# Altium integrated library TI_Logic_Gate.IntLib: 2017 symbols (part 3 of 56)
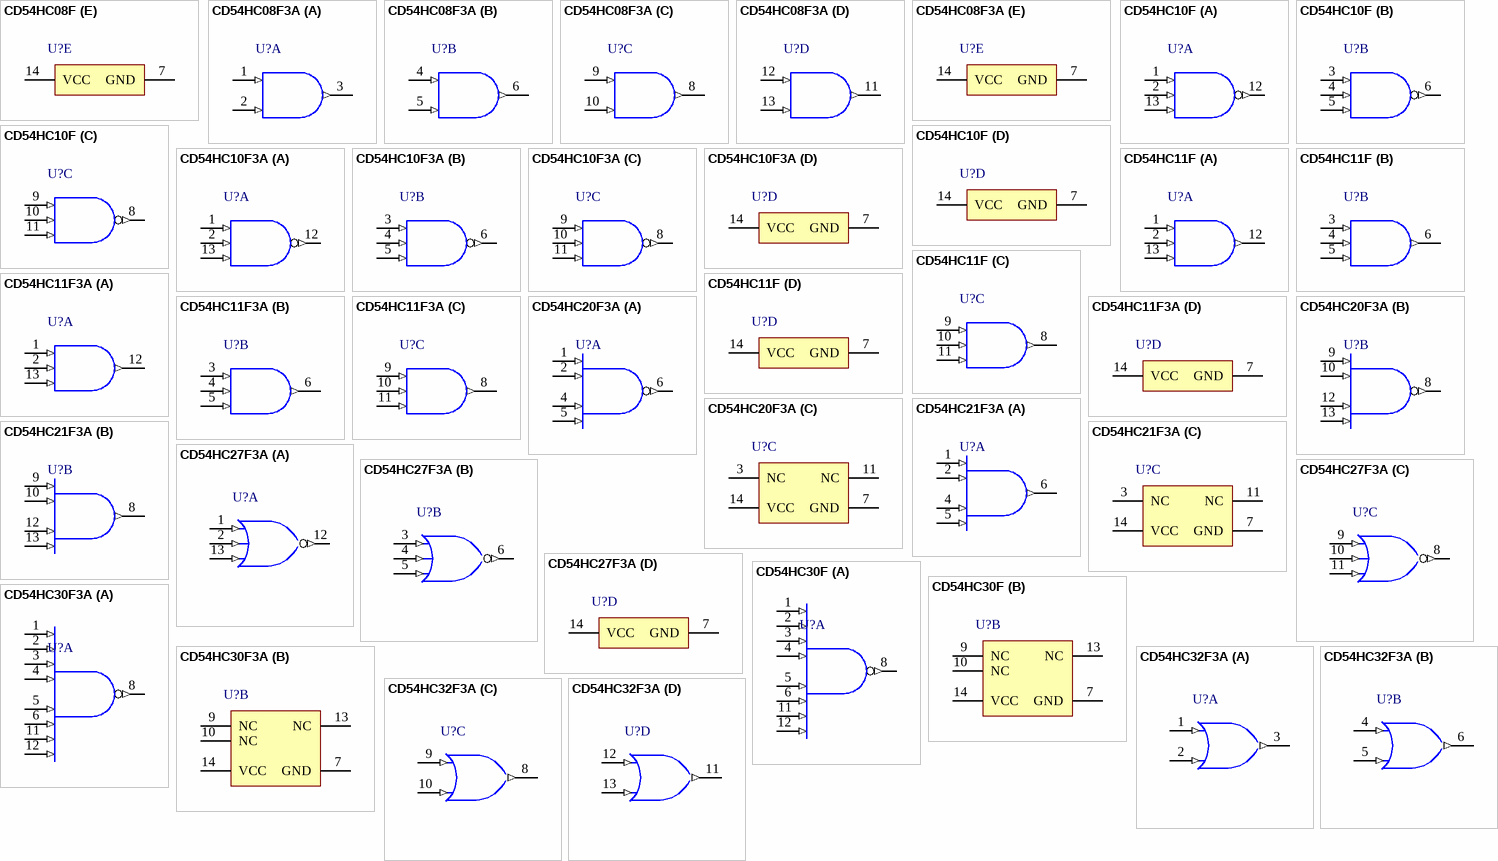
[diagram p228: symbols CD54HC08F to CD54HC32F3A]

## CD54HC11F3A
designator U?
High Speed CMOS Logic Triple 3-Input AND Gates, J0014A, TUBE; Generic Part Number: CD54HC11; Manufacturer: Texas Instruments; PartNumber: CD54HC11F3A; VCC(Min)(V): 2; VCC(Max)(V): 6; Rating: Military; Technology Family: HC; Schmitt Trigger: No; Output Drive (IOL/IOH)(Max)(mA): -5.2/5.2; tpd @ Nom Voltage(Max)(ns): 150; DatasheetVersion: SCHS273E; PackageReference: J0014A; Output Type: CMOS; Input Type: CMOS; Operating Temperature Range(C): -55 to 125; ComponentLink1Description: Manufacturer URL; ComponentLink1URL: http://www.ti.com/; ComponentLink2Description: Datasheet; ComponentLink2URL: http://www.ti.com/lit/ds/symlink/cd54hc11.pdf
footprint J0014A (DIP, 14-Leads, Body 19.95x7.2mm, Pitch 2.54mm)
part A pins: 1 1A (in), 2 1B (in), 12 1Y (out), 13 1C (in)
part B pins: 3 2A (in), 4 2B (in), 5 2C (in), 6 2Y (out)
part C pins: 8 3Y (out), 9 3A (in), 10 3B (in), 11 3C (in)
part D pins: 7 GND (power), 14 VCC (power)

## CD54HC20F3A
designator U?
High Speed CMOS Logic Dual 4-Input NAND Gates, J0014A, TUBE; Generic Part Number: CD54HC20; Manufacturer: Texas Instruments; PartNumber: CD54HC20F3A; VCC(Min)(V): 2; VCC(Max)(V): 6; Rating: Military; Technology Family: HC; Schmitt Trigger: No; DatasheetVersion: SCHS130C; PackageReference: J0014A; Output Type: CMOS; Input Type: CMOS; Operating Temperature Range(C): -55 to 125; ComponentLink1Description: Manufacturer URL; ComponentLink1URL: http://www.ti.com/; ComponentLink2Description: Datasheet; ComponentLink2URL: http://www.ti.com/lit/ds/symlink/cd54hc20.pdf; ComponentLink3Description: Package Specification; ComponentLink3URL: http://www.ti.com/lit/ml/mcer002d/mcer002d.pdf
footprint J0014A (DIP, 14-Leads, Body 19.95x7.2mm, Pitch 2.54mm)
part A pins: 1 1A (in), 2 1B (in), 4 1C (in), 5 1D (in), 6 1Y (out)
part B pins: 8 2Y (out), 9 2A (in), 10 2B (in), 12 2C (in), 13 2D (in)
part C pins: 3 NC, 7 GND (power), 11 NC, 14 VCC (power)

## CD54HC21F3A
designator U?
High Speed CMOS Logic Dual 4-Input AND Gates, J0014A, TUBE; Generic Part Number: CD54HC21; Manufacturer: Texas Instruments; PartNumber: CD54HC21F3A; VCC(Min)(V): 2; VCC(Max)(V): 6; Rating: Military; Technology Family: HC; Schmitt Trigger: No; Output Drive (IOL/IOH)(Max)(mA): -5.2/5.2; tpd @ Nom Voltage(Max)(ns): 165; DatasheetVersion: SCHS131C; PackageReference: J0014A; Output Type: CMOS; Input Type: CMOS; Operating Temperature Range(C): -55 to 125; ComponentLink1Description: Manufacturer URL; ComponentLink1URL: http://www.ti.com/; ComponentLink2Description: Datasheet; ComponentLink2URL: http://www.ti.com/lit/ds/symlink/cd54hc21.pdf
footprint J0014A (DIP, 14-Leads, Body 19.95x7.2mm, Pitch 2.54mm)
part A pins: 1 1A (in), 2 1B (in), 4 1C (in), 5 1D (in), 6 1Y (out)
part B pins: 8 2Y (out), 9 2A (in), 10 2B (in), 12 2C (in), 13 2D (in)
part C pins: 3 NC, 7 GND (power), 11 NC, 14 VCC (power)

## CD54HC27F3A
designator U?
High Speed CMOS Logic Triple 3-Input NOR Gates, J0014A, TUBE; Generic Part Number: CD54HC27; Manufacturer: Texas Instruments; PartNumber: CD54HC27F3A; VCC(Min)(V): 2; VCC(Max)(V): 6; Bits(#): 3; Rating: Military; tpd @ Nom Voltage(Max)(ns): 145; DatasheetVersion: SCHS132C; PackageReference: J0014A; Output Type: CMOS; Input Type: CMOS; Operating Temperature Range(C): -55 to 125; ComponentLink1Description: Manufacturer URL; ComponentLink1URL: http://www.ti.com/; ComponentLink2Description: Datasheet; ComponentLink2URL: http://www.ti.com/lit/ds/symlink/cd54hc27.pdf; ComponentLink3Description: Package Specification; ComponentLink3URL: http://www.ti.com/lit/ml/mcer002d/mcer002d.pdf
footprint J0014A (DIP, 14-Leads, Body 19.95x7.2mm, Pitch 2.54mm)
part A pins: 1 1A (in), 2 1B (in), 12 1Y (out), 13 1C (in)
part B pins: 3 2A (in), 4 2B (in), 5 2C (in), 6 2Y (out)
part C pins: 8 3Y (out), 9 3A (in), 10 3B (in), 11 3C (in)
part D pins: 7 GND (power), 14 VCC (power)

## CD54HC30F
designator U?
High Speed CMOS Logic 8-Input NAND Gate, J0014A, TUBE; Generic Part Number: CD54HC30; Manufacturer: Texas Instruments; PartNumber: CD54HC30F; VCC(Min)(V): 2; VCC(Max)(V): 6; Rating: Military; Technology Family: HC; Schmitt Trigger: No; DatasheetVersion: SCHS121D; PackageReference: J0014A; Output Type: CMOS; Input Type: CMOS; Operating Temperature Range(C): -55 to 125; ComponentLink1Description: Manufacturer URL; ComponentLink1URL: http://www.ti.com/; ComponentLink2Description: Datasheet; ComponentLink2URL: http://www.ti.com/lit/ds/symlink/cd54hc30.pdf; ComponentLink3Description: Package Specification; ComponentLink3URL: http://www.ti.com/lit/ml/mcer002d/mcer002d.pdf
footprint J0014A (DIP, 14-Leads, Body 19.95x7.2mm, Pitch 2.54mm)
part A pins: 1 A (in), 2 B (in), 3 C (in), 4 D (in), 5 E (in), 6 F (in), 8 ~{Y} (out), 11 G (in), 12 H (in)
part B pins: 7 GND (power), 9 NC, 10 NC, 13 NC, 14 VCC (power)

## CD54HC30F3A
designator U?
High Speed CMOS Logic 8-Input NAND Gate, J0014A, TUBE; Generic Part Number: CD54HC30; Manufacturer: Texas Instruments; PartNumber: CD54HC30F3A; VCC(Min)(V): 2; VCC(Max)(V): 6; Rating: Military; Technology Family: HC; Schmitt Trigger: No; DatasheetVersion: SCHS121D; PackageReference: J0014A; Output Type: CMOS; Input Type: CMOS; Operating Temperature Range(C): -55 to 125; ComponentLink1Description: Manufacturer URL; ComponentLink1URL: http://www.ti.com/; ComponentLink2Description: Datasheet; ComponentLink2URL: http://www.ti.com/lit/ds/symlink/cd54hc30.pdf; ComponentLink3Description: Package Specification; ComponentLink3URL: http://www.ti.com/lit/ml/mcer002d/mcer002d.pdf
footprint J0014A (DIP, 14-Leads, Body 19.95x7.2mm, Pitch 2.54mm)
part A pins: 1 A (in), 2 B (in), 3 C (in), 4 D (in), 5 E (in), 6 F (in), 8 ~{Y} (out), 11 G (in), 12 H (in)
part B pins: 7 GND (power), 9 NC, 10 NC, 13 NC, 14 VCC (power)

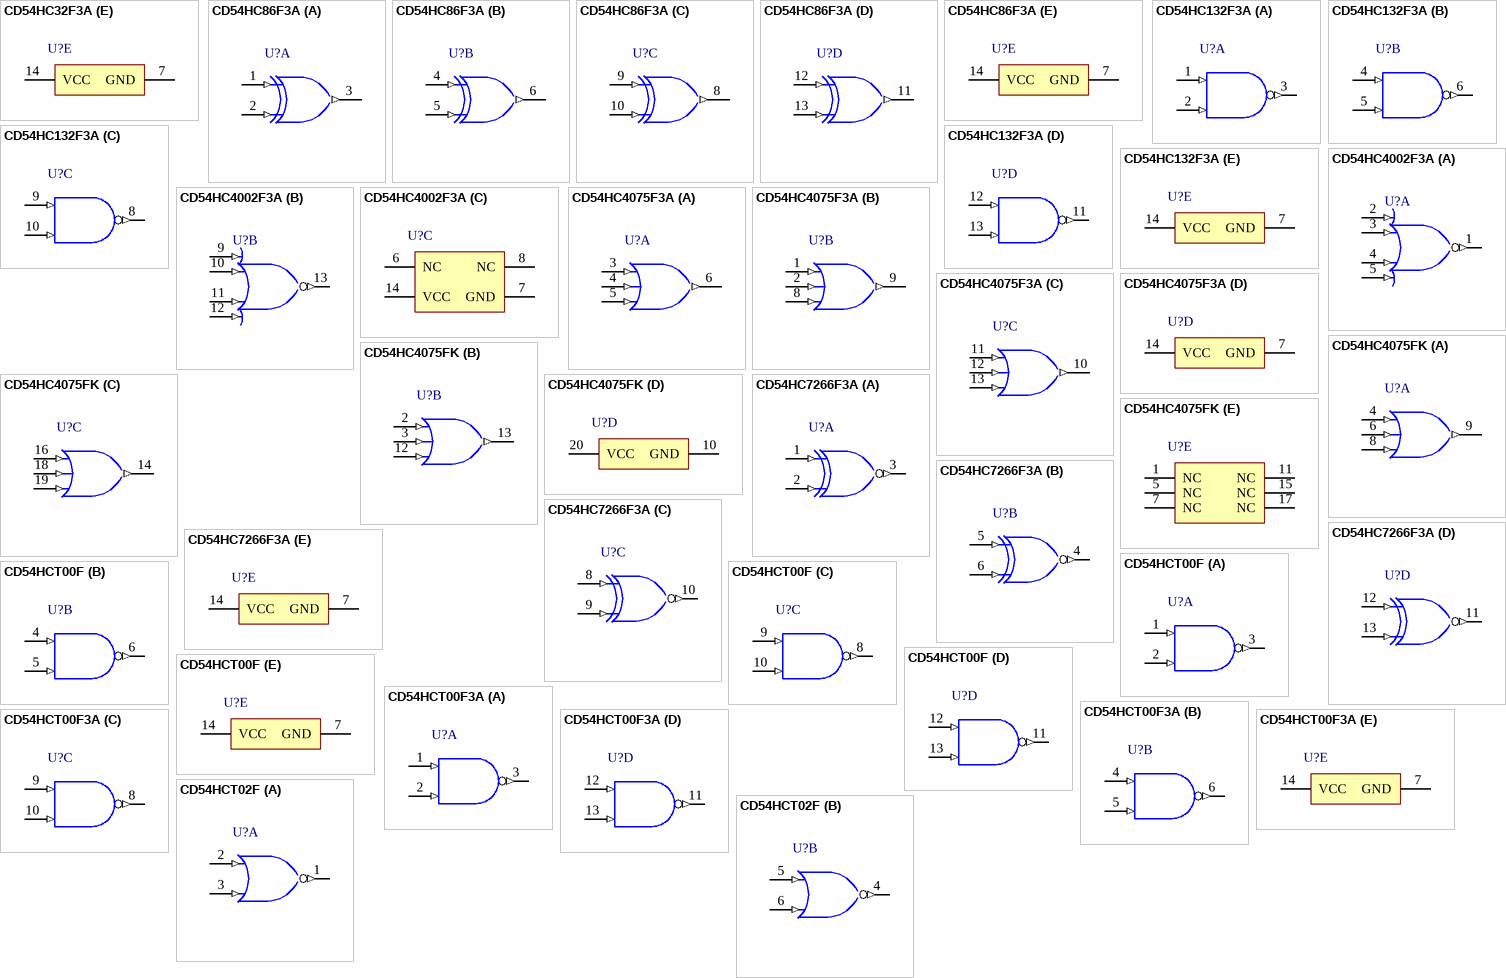
[diagram p10: symbols CD54HC32F3A to CD54HCT02F]

## CD54HC32F3A
designator U?
High Speed CMOS Logic Quad Two-Input OR Gates, J0014A, TUBE; Generic Part Number: CD54HC32; Manufacturer: Texas Instruments; PartNumber: CD54HC32F3A; VCC(Min)(V): 2; VCC(Max)(V): 6; Bits(#): 4; Rating: Military; tpd @ Nom Voltage(Max)(ns): 135; DatasheetVersion: SCHS274C; PackageReference: J0014A; Output Type: CMOS; Input Type: CMOS; Operating Temperature Range(C): -55 to 125; ComponentLink1Description: Manufacturer URL; ComponentLink1URL: http://www.ti.com/; ComponentLink2Description: Datasheet; ComponentLink2URL: http://www.ti.com/lit/ds/symlink/cd54hc32.pdf; ComponentLink3Description: Package Specification; ComponentLink3URL: http://www.ti.com/lit/ml/mcer002d/mcer002d.pdf
footprint J0014A (DIP, 14-Leads, Body 19.95x7.2mm, Pitch 2.54mm)
part A pins: 1 1A (in), 2 1B (in), 3 1Y (out)
part B pins: 4 2A (in), 5 2B (in), 6 2Y (out)
part C pins: 8 3Y (out), 9 3A (in), 10 3B (in)
part D pins: 11 4Y (out), 12 4A (in), 13 4B (in)
part E pins: 7 GND (power), 14 VCC (power)

## CD54HC86F3A
designator U?
High Speed CMOS Logic Quad 2-Input EXCLUSIVE OR Gates, J0014A, TUBE; Generic Part Number: CD54HC86; Manufacturer: Texas Instruments; PartNumber: CD54HC86F3A; VCC(Min)(V): 2; VCC(Max)(V): 6; Rating: Military; Technology Family: HC; Schmitt Trigger: No; DatasheetVersion: SCHS137D; PackageReference: J0014A; Output Type: CMOS; Input Type: CMOS; Operating Temperature Range(C): -55 to 125; ComponentLink1Description: Manufacturer URL; ComponentLink1URL: http://www.ti.com/; ComponentLink2Description: Datasheet; ComponentLink2URL: http://www.ti.com/lit/ds/symlink/cd54hc86.pdf
footprint J0014A (DIP, 14-Leads, Body 19.95x7.2mm, Pitch 2.54mm)
part A pins: 1 1A (in), 2 1B (in), 3 1Y (out)
part B pins: 4 2A (in), 5 2B (in), 6 2Y (out)
part C pins: 8 3Y (out), 9 3A (in), 10 3B (in)
part D pins: 11 4Y (out), 12 4A (in), 13 4B (in)
part E pins: 7 GND (power), 14 VCC (power)

## CD54HC132F3A
designator U?
High Speed CMOS Logic Quad 2-Input NAND Schmitt Trigger, J0014A, TUBE; Generic Part Number: CD54HC132; Manufacturer: Texas Instruments; PartNumber: CD54HC132F3A; VCC(Min)(V): 2; VCC(Max)(V): 6; Rating: Military; Technology Family: HC; Schmitt Trigger: Yes; DatasheetVersion: SCHS145E; PackageReference: J0014A; Output Type: CMOS; Input Type: CMOS; Operating Temperature Range(C): -55 to 125; ComponentLink1Description: Manufacturer URL; ComponentLink1URL: http://www.ti.com/; ComponentLink2Description: Datasheet; ComponentLink2URL: http://www.ti.com/lit/ds/symlink/cd54hc132.pdf; ComponentLink3Description: Package Specification; ComponentLink3URL: http://www.ti.com/lit/ml/mcer002d/mcer002d.pdf
footprint J0014A (DIP, 14-Leads, Body 19.95x7.2mm, Pitch 2.54mm)
part A pins: 1 1A (in) "Gate 1 input", 2 1B (in) "Gate 1 input", 3 1Y (out) "Gate 1 output"
part B pins: 4 2A (in) "Gate 2 input", 5 2B (in) "Gate 2 input", 6 2Y (out) "Gate 2 output"
part C pins: 8 3Y (out) "Gate 3 output", 9 3A (in) "Gate 3 input", 10 3B (in) "Gate 3 input"
part D pins: 11 4Y (out) "Gate 4 output", 12 4A (in) "Gate 4 input", 13 4B (in) "Gate 4 input"
part E pins: 7 GND (power) "Ground Pin", 14 VCC (power) "Power Pin"

## CD54HC4002F3A
designator U?
High Speed CMOS Logic Dual 4-Input NOR Gates, J0014A, TUBE; Generic Part Number: CD54HC4002; Manufacturer: Texas Instruments; PartNumber: CD54HC4002F3A; VCC(Min)(V): 2; VCC(Max)(V): 6; Rating: Military; tpd @ Nom Voltage(Max)(ns): 150; DatasheetVersion: SCHS197E; PackageReference: J0014A; Output Type: CMOS; Input Type: CMOS; Bits(#): 2; Operating Temperature Range(C): -55 to 125; ComponentLink1Description: Manufacturer URL; ComponentLink1URL: http://www.ti.com/; ComponentLink2Description: Datasheet; ComponentLink2URL: http://www.ti.com/lit/ds/symlink/cd54hc4002.pdf; ComponentLink3Description: Package Specification; ComponentLink3URL: http://www.ti.com/lit/ml/mcer002d/mcer002d.pdf
footprint J0014A (DIP, 14-Leads, Body 19.95x7.2mm, Pitch 2.54mm)
part A pins: 1 1Y (out), 2 1A (in), 3 1B (in), 4 1C (in), 5 1D (in)
part B pins: 9 2A (in), 10 2B (in), 11 2C (in), 12 2D (in), 13 2Y (out)
part C pins: 6 NC, 7 GND (power), 8 NC, 14 VCC (power)

## CD54HC4075F3A
designator U?
High Speed CMOS Logic Triple 3-Input OR Gates, J0014A, TUBE; Generic Part Number: CD54HC4075; Manufacturer: Texas Instruments; PartNumber: CD54HC4075F3A; VCC(Min)(V): 2; VCC(Max)(V): 6; Bits(#): 3; Rating: Military; tpd @ Nom Voltage(Max)(ns): 150; DatasheetVersion: SCHS210G; PackageReference: J0014A; Output Type: CMOS; Input Type: CMOS; Operating Temperature Range(C): -55 to 125; ComponentLink1Description: Manufacturer URL; ComponentLink1URL: http://www.ti.com/; ComponentLink2Description: Datasheet; ComponentLink2URL: http://www.ti.com/lit/ds/symlink/cd54hc4075.pdf; ComponentLink3Description: Package Specification; ComponentLink3URL: http://www.ti.com/lit/ml/mcer002d/mcer002d.pdf
footprint J0014A (DIP, 14-Leads, Body 19.95x7.2mm, Pitch 2.54mm)
part A pins: 3 1A (in), 4 1B (in), 5 1C (in), 6 1Y (out)
part B pins: 1 2A (in), 2 2B (in), 8 2C (in), 9 2Y (out)
part C pins: 10 3Y (out), 11 3A (in), 12 3B (in), 13 3C (in)
part D pins: 7 GND (power), 14 VCC (power)

## CD54HC4075FK
designator U?
High Speed CMOS Logic Triple 3-Input OR Gates, FK0020A, TUBE; Generic Part Number: CD54HC4075; Manufacturer: Texas Instruments; PartNumber: CD54HC4075FK; VCC(Min)(V): 2; VCC(Max)(V): 6; Bits(#): 3; Rating: Military; tpd @ Nom Voltage(Max)(ns): 150; DatasheetVersion: SCHS210G; PackageReference: FK0020A; Output Type: CMOS; Input Type: CMOS; Operating Temperature Range(C): -55 to 125; Code_JEDEC: MS-004; ComponentLink1Description: Manufacturer URL; ComponentLink1URL: http://www.ti.com/; ComponentLink2Description: Datasheet; ComponentLink2URL: http://www.ti.com/lit/ds/symlink/cd54hc4075.pdf; ComponentLink3Description: Package Specification; ComponentLink3URL: http://www.ti.com/lit/ml/mlcc006d/mlcc006d.pdf
footprint FK0020A_N (LCC, 20-Leads, Body 8.9x8.9mm, Pitch 1.27mm, IPC Medium Density)
footprint FK0020A_M (LCC, 20-Leads, Body 8.9x8.9mm, Pitch 1.27mm, IPC Low Density)
footprint FK0020A_L (LCC, 20-Leads, Body 8.9x8.9mm, Pitch 1.27mm, IPC High Density)
part A pins: 4 1A (in), 6 1B (in), 8 1C (in), 9 1Y (out)
part B pins: 2 2A (in), 3 2B (in), 12 2C (in), 13 2Y (out)
part C pins: 14 3Y (out), 16 3A (in), 18 3B (in), 19 3C (in)
part D pins: 10 GND (power), 20 VCC (power)
part E pins: 1 NC, 5 NC, 7 NC, 11 NC, 15 NC, 17 NC

## CD54HC7266F3A
designator U?
High Speed CMOS Logic, J0014A, TUBE; Generic Part Number: CD54HC7266; Manufacturer: Texas Instruments; PartNumber: CD54HC7266F3A; VCC(Min)(V): 2; VCC(Max)(V): 6; Output Drive(mA): -5.2/5.2; ICC @ Nom Voltage(Max)(mA): 0.02; Bits(#): 4; F @ Nom Voltage(Max)(Mhz): 9; Rating: Military; Technology Family: HC; Voltage(Nom)(V): 10; Schmitt Trigger: No; tpd @ Nom Voltage(Max)(ns): 25; DatasheetVersion: SCHS219D; PackageReference: J0014A; Output Type: CMOS; Input Type: CMOS; Operating Temperature Range(C): -55 to 125; ComponentLink1Description: Manufacturer URL; ComponentLink1URL: http://www.ti.com/; ComponentLink2Description: Datasheet; ComponentLink2URL: http://www.ti.com/lit/ds/symlink/cd54hc7266.pdf
footprint J0014A (DIP, 14-Leads, Body 19.95x7.2mm, Pitch 2.54mm)
part A pins: 1 1A (in), 2 1B (in), 3 1Y (out)
part B pins: 4 2Y (out), 5 2A (in), 6 2B (in)
part C pins: 8 3A (in), 9 3B (in), 10 3Y (out)
part D pins: 11 4Y (out), 12 4A (in), 13 4B (in)
part E pins: 7 GND (power), 14 VCC (power)

## CD54HCT00F
designator U?
High Speed CMOS Logic Quad 2-Input NAND Gates, J0014A, TUBE; Generic Part Number: CD54HCT00; Manufacturer: Texas Instruments; PartNumber: CD54HCT00F; VCC(Min)(V): 4.5; VCC(Max)(V): 5.5; Input Type: TTL; Rating: Military; Technology Family: HCT; Schmitt Trigger: No; DatasheetVersion: SCHS116C; PackageReference: J0014A; Output Type: CMOS; Operating Temperature Range(C): -55 to 125; ComponentLink1Description: Manufacturer URL; ComponentLink1URL: http://www.ti.com/; ComponentLink2Description: Datasheet; ComponentLink2URL: http://www.ti.com/lit/ds/symlink/cd54hct00.pdf; ComponentLink3Description: Package Specification; ComponentLink3URL: http://www.ti.com/lit/ml/mcer002d/mcer002d.pdf
footprint J0014A (DIP, 14-Leads, Body 19.95x7.2mm, Pitch 2.54mm)
part A pins: 1 1A (in) "Gate 1 input", 2 1B (in) "Gate 1 input", 3 1Y (out) "Gate 1 output"
part B pins: 4 2A (in) "Gate 2 input", 5 2B (in) "Gate 2 input", 6 2Y (out) "Gate 2 output"
part C pins: 8 3Y (out) "Gate 3 output", 9 3A (in) "Gate 3 input", 10 3B (in) "Gate 3 input"
part D pins: 11 4Y (out) "Gate 4 output", 12 4A (in) "Gate 4 input", 13 4B (in) "Gate 4 input"
part E pins: 7 GND (power) "Ground Pin", 14 VCC (power) "Power Pin"

## CD54HCT00F3A
designator U?
High Speed CMOS Logic Quad 2-Input NAND Gates, J0014A, TUBE; Generic Part Number: CD54HCT00; Manufacturer: Texas Instruments; PartNumber: CD54HCT00F3A; VCC(Min)(V): 4.5; VCC(Max)(V): 5.5; Input Type: TTL; Rating: Military; Technology Family: HCT; Schmitt Trigger: No; DatasheetVersion: SCHS116C; PackageReference: J0014A; Output Type: CMOS; Operating Temperature Range(C): -55 to 125; ComponentLink1Description: Manufacturer URL; ComponentLink1URL: http://www.ti.com/; ComponentLink2Description: Datasheet; ComponentLink2URL: http://www.ti.com/lit/ds/symlink/cd54hct00.pdf; ComponentLink3Description: Package Specification; ComponentLink3URL: http://www.ti.com/lit/ml/mcer002d/mcer002d.pdf
footprint J0014A (DIP, 14-Leads, Body 19.95x7.2mm, Pitch 2.54mm)
part A pins: 1 1A (in) "Gate 1 input", 2 1B (in) "Gate 1 input", 3 1Y (out) "Gate 1 output"
part B pins: 4 2A (in) "Gate 2 input", 5 2B (in) "Gate 2 input", 6 2Y (out) "Gate 2 output"
part C pins: 8 3Y (out) "Gate 3 output", 9 3A (in) "Gate 3 input", 10 3B (in) "Gate 3 input"
part D pins: 11 4Y (out) "Gate 4 output", 12 4A (in) "Gate 4 input", 13 4B (in) "Gate 4 input"
part E pins: 7 GND (power) "Ground Pin", 14 VCC (power) "Power Pin"

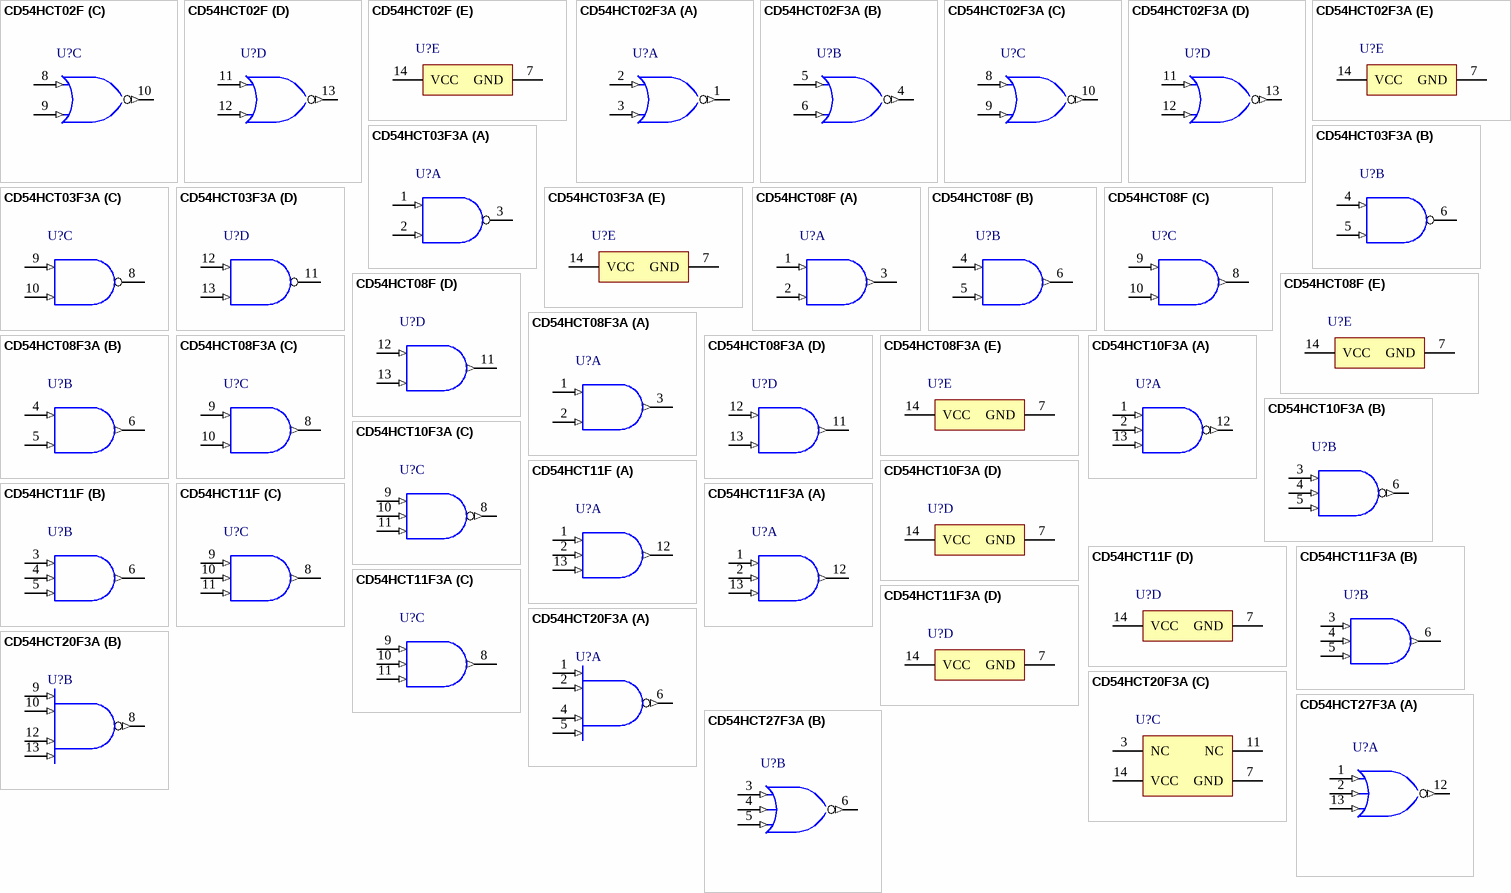
[diagram p11: symbols CD54HCT02F to CD54HCT27F3A]

## CD54HCT02F
designator U?
High Speed CMOS Logic Quad Two-Input NOR Gates, J0014A, TUBE; Generic Part Number: CD54HCT02; Manufacturer: Texas Instruments; PartNumber: CD54HCT02F; VCC(Min)(V): 4.5; VCC(Max)(V): 5.5; Input Type: TTL; Bits(#): 4; Rating: Military; tpd @ Nom Voltage(Max)(ns): 32; DatasheetVersion: SCHS125C; PackageReference: J0014A; Output Type: CMOS; Operating Temperature Range(C): -55 to 125; ComponentLink1Description: Manufacturer URL; ComponentLink1URL: http://www.ti.com/; ComponentLink2Description: Datasheet; ComponentLink2URL: http://www.ti.com/lit/ds/symlink/cd54hct02.pdf; ComponentLink3Description: Package Specification; ComponentLink3URL: http://www.ti.com/lit/ml/mcer002d/mcer002d.pdf
footprint J0014A (DIP, 14-Leads, Body 19.95x7.2mm, Pitch 2.54mm)
part A pins: 1 1Y (out) "1Y output", 2 1A (in) "1A input", 3 1B (in) "1B input"
part B pins: 4 2Y (out) "2Y output", 5 2A (in) "2A input", 6 2B (in) "2B input"
part C pins: 8 3A (in) "3A input", 9 3B (in) "3B input", 10 3Y (out) "3Y output"
part D pins: 11 4A (in) "4A input", 12 4B (in) "4B input", 13 4Y (out) "4Y output"
part E pins: 7 GND (power), 14 VCC (power)

## CD54HCT02F3A
designator U?
High Speed CMOS Logic Quad Two-Input NOR Gates, J0014A, TUBE; Generic Part Number: CD54HCT02; Manufacturer: Texas Instruments; PartNumber: CD54HCT02F3A; VCC(Min)(V): 4.5; VCC(Max)(V): 5.5; Input Type: TTL; Bits(#): 4; Rating: Military; tpd @ Nom Voltage(Max)(ns): 32; DatasheetVersion: SCHS125C; PackageReference: J0014A; Output Type: CMOS; Operating Temperature Range(C): -55 to 125; ComponentLink1Description: Manufacturer URL; ComponentLink1URL: http://www.ti.com/; ComponentLink2Description: Datasheet; ComponentLink2URL: http://www.ti.com/lit/ds/symlink/cd54hct02.pdf; ComponentLink3Description: Package Specification; ComponentLink3URL: http://www.ti.com/lit/ml/mcer002d/mcer002d.pdf
footprint J0014A (DIP, 14-Leads, Body 19.95x7.2mm, Pitch 2.54mm)
part A pins: 1 1Y (out) "1Y output", 2 1A (in) "1A input", 3 1B (in) "1B input"
part B pins: 4 2Y (out) "2Y output", 5 2A (in) "2A input", 6 2B (in) "2B input"
part C pins: 8 3A (in) "3A input", 9 3B (in) "3B input", 10 3Y (out) "3Y output"
part D pins: 11 4A (in) "4A input", 12 4B (in) "4B input", 13 4Y (out) "4Y output"
part E pins: 7 GND (power), 14 VCC (power)

## CD54HCT03F3A
designator U?
High Speed CMOS Logic Quad 2-Input NAND Gates with Open Drain, J0014A, TUBE; Generic Part Number: CD54HCT03; Manufacturer: Texas Instruments; PartNumber: CD54HCT03F3A; VCC(Min)(V): 4.5; VCC(Max)(V): 5.5; Input Type: TTL; Rating: Military; Technology Family: HCT; Schmitt Trigger: No; DatasheetVersion: SCHS126D; PackageReference: J0014A; Output Type: CMOS; Operating Temperature Range(C): -55 to 125; ComponentLink1Description: Manufacturer URL; ComponentLink1URL: http://www.ti.com/; ComponentLink2Description: Datasheet; ComponentLink2URL: http://www.ti.com/lit/ds/symlink/cd54hct03.pdf; ComponentLink3Description: Package Specification; ComponentLink3URL: http://www.ti.com/lit/ml/mcer002d/mcer002d.pdf
footprint J0014A (DIP, 14-Leads, Body 19.95x7.2mm, Pitch 2.54mm)
part A pins: 1 1A (in), 2 1B (in), 3 1Y (oc)
part B pins: 4 2A (in), 5 2B (in), 6 2Y (oc)
part C pins: 8 3Y (oc), 9 3A (in), 10 3B (in)
part D pins: 11 4Y (oc), 12 4A (in), 13 4B (in)
part E pins: 7 GND (power), 14 VCC (power)

## CD54HCT08F
designator U?
High Speed CMOS Logic Quad 2-Input AND Gates, J0014A, TUBE; Generic Part Number: CD54HCT08; Manufacturer: Texas Instruments; PartNumber: CD54HCT08F; VCC(Min)(V): 4.5; VCC(Max)(V): 5.5; Input Type: TTL; Rating: Military; Technology Family: HCT; Schmitt Trigger: No; Output Drive (IOL/IOH)(Max)(mA): -5.2/5.2; tpd @ Nom Voltage(Max)(ns): 38; DatasheetVersion: SCHS118C; PackageReference: J0014A; Output Type: CMOS; Operating Temperature Range(C): -55 to 125; ComponentLink1Description: Manufacturer URL; ComponentLink1URL: http://www.ti.com/; ComponentLink2Description: Datasheet; ComponentLink2URL: http://www.ti.com/lit/ds/symlink/cd54hct08.pdf
footprint J0014A (DIP, 14-Leads, Body 19.95x7.2mm, Pitch 2.54mm)
part A pins: 1 1A (in), 2 1B (in), 3 1Y (out)
part B pins: 4 2A (in), 5 2B (in), 6 2Y (out)
part C pins: 8 3Y (out), 9 3A (in), 10 3B (in)
part D pins: 11 4Y (out), 12 4A (in), 13 4B (in)
part E pins: 7 GND (power), 14 VCC (power)

## CD54HCT08F3A
designator U?
High Speed CMOS Logic Quad 2-Input AND Gates, J0014A, TUBE; Generic Part Number: CD54HCT08; Manufacturer: Texas Instruments; PartNumber: CD54HCT08F3A; VCC(Min)(V): 4.5; VCC(Max)(V): 5.5; Input Type: TTL; Rating: Military; Technology Family: HCT; Schmitt Trigger: No; Output Drive (IOL/IOH)(Max)(mA): -5.2/5.2; tpd @ Nom Voltage(Max)(ns): 38; DatasheetVersion: SCHS118C; PackageReference: J0014A; Output Type: CMOS; Operating Temperature Range(C): -55 to 125; ComponentLink1Description: Manufacturer URL; ComponentLink1URL: http://www.ti.com/; ComponentLink2Description: Datasheet; ComponentLink2URL: http://www.ti.com/lit/ds/symlink/cd54hct08.pdf
footprint J0014A (DIP, 14-Leads, Body 19.95x7.2mm, Pitch 2.54mm)
part A pins: 1 1A (in), 2 1B (in), 3 1Y (out)
part B pins: 4 2A (in), 5 2B (in), 6 2Y (out)
part C pins: 8 3Y (out), 9 3A (in), 10 3B (in)
part D pins: 11 4Y (out), 12 4A (in), 13 4B (in)
part E pins: 7 GND (power), 14 VCC (power)

## CD54HCT10F3A
designator U?
High Speed CMOS Logic Triple 3-Input NAND Gates, J0014A, TUBE; Generic Part Number: CD54HCT10; Manufacturer: Texas Instruments; PartNumber: CD54HCT10F3A; VCC(Min)(V): 4.5; VCC(Max)(V): 5.5; Input Type: TTL; Rating: Military; Technology Family: HCT; Schmitt Trigger: No; DatasheetVersion: SCHS128C; PackageReference: J0014A; Output Type: CMOS; Operating Temperature Range(C): -55 to 125; ComponentLink1Description: Manufacturer URL; ComponentLink1URL: http://www.ti.com/; ComponentLink2Description: Datasheet; ComponentLink2URL: http://www.ti.com/lit/ds/symlink/cd54hct10.pdf; ComponentLink3Description: Package Specification; ComponentLink3URL: http://www.ti.com/lit/ml/mcer002d/mcer002d.pdf
footprint J0014A (DIP, 14-Leads, Body 19.95x7.2mm, Pitch 2.54mm)
part A pins: 1 1A (in), 2 1B (in), 12 1Y (out), 13 1C (in)
part B pins: 3 2A (in), 4 2B (in), 5 2C (in), 6 2Y (out)
part C pins: 8 3Y (out), 9 3A (in), 10 3B (in), 11 3C (in)
part D pins: 7 GND (power), 14 VCC (power)

## CD54HCT11F
designator U?
High Speed CMOS Logic Triple 3-Input AND Gates, J0014A, TUBE; Generic Part Number: CD54HCT11; Manufacturer: Texas Instruments; PartNumber: CD54HCT11F; VCC(Min)(V): 4.5; VCC(Max)(V): 5.5; Input Type: TTL; Rating: Military; Technology Family: HCT; Schmitt Trigger: No; Output Drive (IOL/IOH)(Max)(mA): -4/4; tpd @ Nom Voltage(Max)(ns): 42; DatasheetVersion: SCHS273E; PackageReference: J0014A; Output Type: CMOS; Operating Temperature Range(C): -55 to 125; ComponentLink1Description: Manufacturer URL; ComponentLink1URL: http://www.ti.com/; ComponentLink2Description: Datasheet; ComponentLink2URL: http://www.ti.com/lit/ds/symlink/cd54hct11.pdf
footprint J0014A (DIP, 14-Leads, Body 19.95x7.2mm, Pitch 2.54mm)
part A pins: 1 1A (in), 2 1B (in), 12 1Y (out), 13 1C (in)
part B pins: 3 2A (in), 4 2B (in), 5 2C (in), 6 2Y (out)
part C pins: 8 3Y (out), 9 3A (in), 10 3B (in), 11 3C (in)
part D pins: 7 GND (power), 14 VCC (power)

## CD54HCT11F3A
designator U?
High Speed CMOS Logic Triple 3-Input AND Gates, J0014A, TUBE; Generic Part Number: CD54HCT11; Manufacturer: Texas Instruments; PartNumber: CD54HCT11F3A; VCC(Min)(V): 4.5; VCC(Max)(V): 5.5; Input Type: TTL; Rating: Military; Technology Family: HCT; Schmitt Trigger: No; Output Drive (IOL/IOH)(Max)(mA): -4/4; tpd @ Nom Voltage(Max)(ns): 42; DatasheetVersion: SCHS273E; PackageReference: J0014A; Output Type: CMOS; Operating Temperature Range(C): -55 to 125; ComponentLink1Description: Manufacturer URL; ComponentLink1URL: http://www.ti.com/; ComponentLink2Description: Datasheet; ComponentLink2URL: http://www.ti.com/lit/ds/symlink/cd54hct11.pdf
footprint J0014A (DIP, 14-Leads, Body 19.95x7.2mm, Pitch 2.54mm)
part A pins: 1 1A (in), 2 1B (in), 12 1Y (out), 13 1C (in)
part B pins: 3 2A (in), 4 2B (in), 5 2C (in), 6 2Y (out)
part C pins: 8 3Y (out), 9 3A (in), 10 3B (in), 11 3C (in)
part D pins: 7 GND (power), 14 VCC (power)

## CD54HCT20F3A
designator U?
High Speed CMOS Logic Dual 4-Input NAND Gates, J0014A, TUBE; Generic Part Number: CD54HCT20; Manufacturer: Texas Instruments; PartNumber: CD54HCT20F3A; VCC(Min)(V): 4.5; VCC(Max)(V): 5.5; Input Type: TTL; Rating: Military; Technology Family: HCT; Schmitt Trigger: No; DatasheetVersion: SCHS130C; PackageReference: J0014A; Output Type: CMOS; Operating Temperature Range(C): -55 to 125; ComponentLink1Description: Manufacturer URL; ComponentLink1URL: http://www.ti.com/; ComponentLink2Description: Datasheet; ComponentLink2URL: http://www.ti.com/lit/ds/symlink/cd54hct20.pdf; ComponentLink3Description: Package Specification; ComponentLink3URL: http://www.ti.com/lit/ml/mcer002d/mcer002d.pdf
footprint J0014A (DIP, 14-Leads, Body 19.95x7.2mm, Pitch 2.54mm)
part A pins: 1 1A (in), 2 1B (in), 4 1C (in), 5 1D (in), 6 1Y (out)
part B pins: 8 2Y (out), 9 2A (in), 10 2B (in), 12 2C (in), 13 2D (in)
part C pins: 3 NC, 7 GND (power), 11 NC, 14 VCC (power)

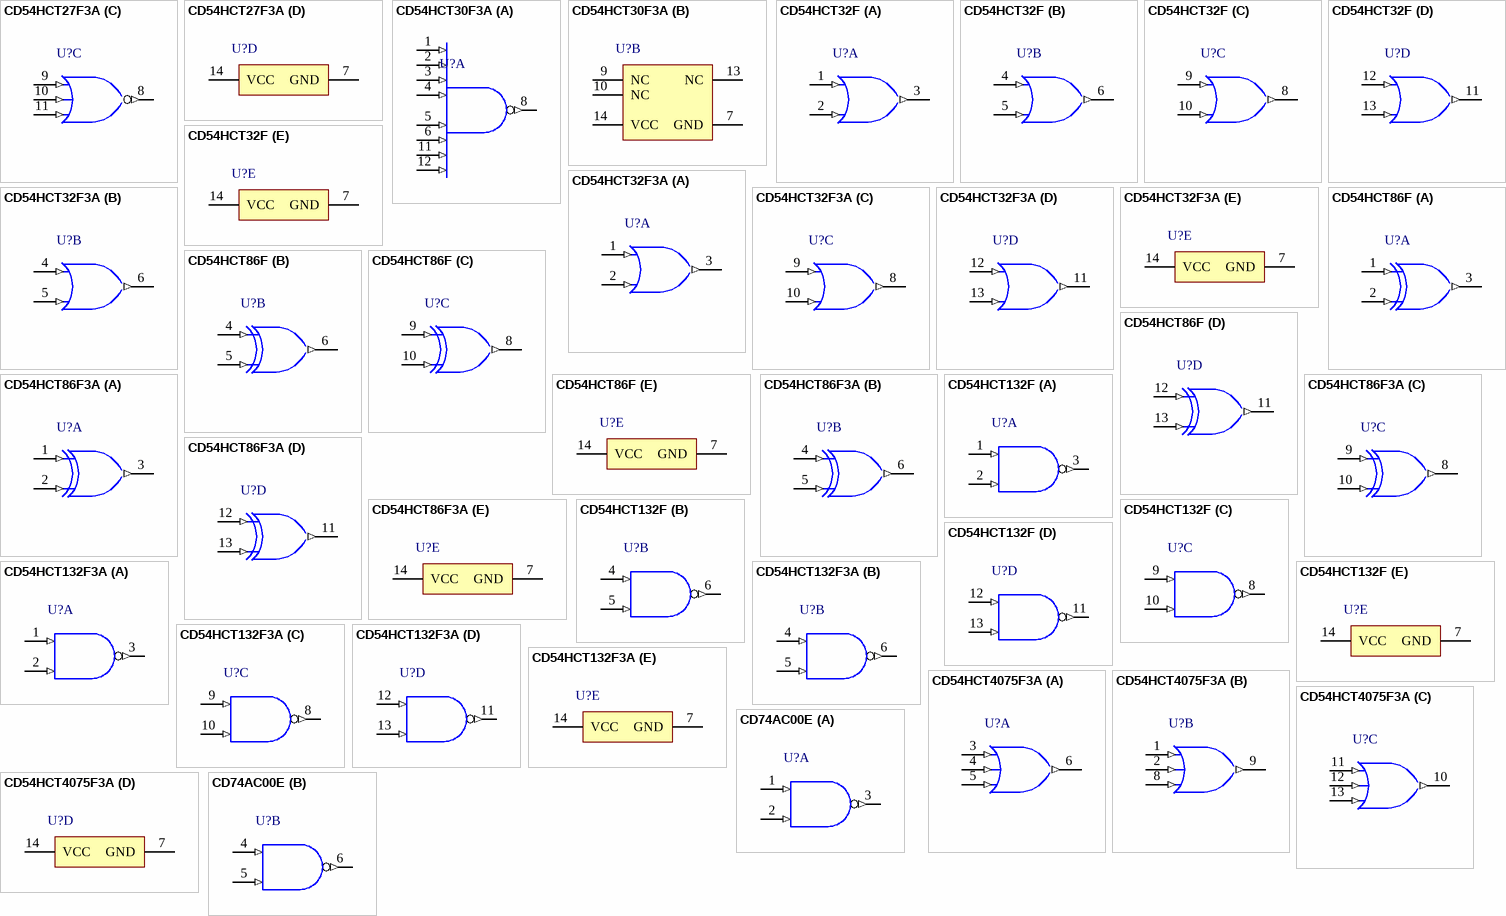
[diagram p12: symbols CD54HCT27F3A to CD74AC00E]

## CD54HCT27F3A
designator U?
High Speed CMOS Logic Triple 3-Input NOR Gates, J0014A, TUBE; Generic Part Number: CD54HCT27; Manufacturer: Texas Instruments; PartNumber: CD54HCT27F3A; VCC(Min)(V): 4.5; VCC(Max)(V): 5.5; Input Type: TTL; Bits(#): 3; Rating: Military; tpd @ Nom Voltage(Max)(ns): 35; DatasheetVersion: SCHS132C; PackageReference: J0014A; Output Type: CMOS; Operating Temperature Range(C): -55 to 125; ComponentLink1Description: Manufacturer URL; ComponentLink1URL: http://www.ti.com/; ComponentLink2Description: Datasheet; ComponentLink2URL: http://www.ti.com/lit/ds/symlink/cd54hct27.pdf; ComponentLink3Description: Package Specification; ComponentLink3URL: http://www.ti.com/lit/ml/mcer002d/mcer002d.pdf
footprint J0014A (DIP, 14-Leads, Body 19.95x7.2mm, Pitch 2.54mm)
part A pins: 1 1A (in), 2 1B (in), 12 1Y (out), 13 1C (in)
part B pins: 3 2A (in), 4 2B (in), 5 2C (in), 6 2Y (out)
part C pins: 8 3Y (out), 9 3A (in), 10 3B (in), 11 3C (in)
part D pins: 7 GND (power), 14 VCC (power)

## CD54HCT30F3A
designator U?
High Speed CMOS Logic 8-Input NAND Gate, J0014A, TUBE; Generic Part Number: CD54HCT30; Manufacturer: Texas Instruments; PartNumber: CD54HCT30F3A; VCC(Min)(V): 4.5; VCC(Max)(V): 5.5; Input Type: TTL; Rating: Military; Technology Family: HCT; Schmitt Trigger: No; DatasheetVersion: SCHS121D; PackageReference: J0014A; Output Type: CMOS; Operating Temperature Range(C): -55 to 125; ComponentLink1Description: Manufacturer URL; ComponentLink1URL: http://www.ti.com/; ComponentLink2Description: Datasheet; ComponentLink2URL: http://www.ti.com/lit/ds/symlink/cd54hct30.pdf; ComponentLink3Description: Package Specification; ComponentLink3URL: http://www.ti.com/lit/ml/mcer002d/mcer002d.pdf
footprint J0014A (DIP, 14-Leads, Body 19.95x7.2mm, Pitch 2.54mm)
part A pins: 1 A (in), 2 B (in), 3 C (in), 4 D (in), 5 E (in), 6 F (in), 8 ~{Y} (out), 11 G (in), 12 H (in)
part B pins: 7 GND (power), 9 NC, 10 NC, 13 NC, 14 VCC (power)

## CD54HCT32F
designator U?
High Speed CMOS Logic Quad Two-Input OR Gates, J0014A, TUBE; Generic Part Number: CD54HCT32; Manufacturer: Texas Instruments; PartNumber: CD54HCT32F; VCC(Min)(V): 4.5; VCC(Max)(V): 5.5; Input Type: TTL; Bits(#): 4; Rating: Military; tpd @ Nom Voltage(Max)(ns): 36; DatasheetVersion: SCHS274C; PackageReference: J0014A; Output Type: CMOS; Operating Temperature Range(C): -55 to 125; ComponentLink1Description: Manufacturer URL; ComponentLink1URL: http://www.ti.com/; ComponentLink2Description: Datasheet; ComponentLink2URL: http://www.ti.com/lit/ds/symlink/cd54hct32.pdf; ComponentLink3Description: Package Specification; ComponentLink3URL: http://www.ti.com/lit/ml/mcer002d/mcer002d.pdf
footprint J0014A (DIP, 14-Leads, Body 19.95x7.2mm, Pitch 2.54mm)
part A pins: 1 1A (in), 2 1B (in), 3 1Y (out)
part B pins: 4 2A (in), 5 2B (in), 6 2Y (out)
part C pins: 8 3Y (out), 9 3A (in), 10 3B (in)
part D pins: 11 4Y (out), 12 4A (in), 13 4B (in)
part E pins: 7 GND (power), 14 VCC (power)

## CD54HCT32F3A
designator U?
High Speed CMOS Logic Quad Two-Input OR Gates, J0014A, TUBE; Generic Part Number: CD54HCT32; Manufacturer: Texas Instruments; PartNumber: CD54HCT32F3A; VCC(Min)(V): 4.5; VCC(Max)(V): 5.5; Input Type: TTL; Bits(#): 4; Rating: Military; tpd @ Nom Voltage(Max)(ns): 36; DatasheetVersion: SCHS274C; PackageReference: J0014A; Output Type: CMOS; Operating Temperature Range(C): -55 to 125; ComponentLink1Description: Manufacturer URL; ComponentLink1URL: http://www.ti.com/; ComponentLink2Description: Datasheet; ComponentLink2URL: http://www.ti.com/lit/ds/symlink/cd54hct32.pdf; ComponentLink3Description: Package Specification; ComponentLink3URL: http://www.ti.com/lit/ml/mcer002d/mcer002d.pdf
footprint J0014A (DIP, 14-Leads, Body 19.95x7.2mm, Pitch 2.54mm)
part A pins: 1 1A (in), 2 1B (in), 3 1Y (out)
part B pins: 4 2A (in), 5 2B (in), 6 2Y (out)
part C pins: 8 3Y (out), 9 3A (in), 10 3B (in)
part D pins: 11 4Y (out), 12 4A (in), 13 4B (in)
part E pins: 7 GND (power), 14 VCC (power)

## CD54HCT86F
designator U?
High Speed CMOS Logic Quad 2-Input EXCLUSIVE OR Gates, J0014A, TUBE; Generic Part Number: CD54HCT86; Manufacturer: Texas Instruments; PartNumber: CD54HCT86F; VCC(Min)(V): 4.5; VCC(Max)(V): 5.5; Input Type: TTL; Rating: Military; Technology Family: HCT; Voltage(Nom)(V): 5; Schmitt Trigger: No; DatasheetVersion: SCHS137D; PackageReference: J0014A; Output Type: CMOS; Operating Temperature Range(C): -55 to 125; ComponentLink1Description: Manufacturer URL; ComponentLink1URL: http://www.ti.com/; ComponentLink2Description: Datasheet; ComponentLink2URL: http://www.ti.com/lit/ds/symlink/cd54hct86.pdf
footprint J0014A (DIP, 14-Leads, Body 19.95x7.2mm, Pitch 2.54mm)
part A pins: 1 1A (in), 2 1B (in), 3 1Y (out)
part B pins: 4 2A (in), 5 2B (in), 6 2Y (out)
part C pins: 8 3Y (out), 9 3A (in), 10 3B (in)
part D pins: 11 4Y (out), 12 4A (in), 13 4B (in)
part E pins: 7 GND (power), 14 VCC (power)

## CD54HCT86F3A
designator U?
High Speed CMOS Logic Quad 2-Input EXCLUSIVE OR Gates, J0014A, TUBE; Generic Part Number: CD54HCT86; Manufacturer: Texas Instruments; PartNumber: CD54HCT86F3A; VCC(Min)(V): 4.5; VCC(Max)(V): 5.5; Input Type: TTL; Rating: Military; Technology Family: HCT; Voltage(Nom)(V): 5; Schmitt Trigger: No; DatasheetVersion: SCHS137D; PackageReference: J0014A; Output Type: CMOS; Operating Temperature Range(C): -55 to 125; ComponentLink1Description: Manufacturer URL; ComponentLink1URL: http://www.ti.com/; ComponentLink2Description: Datasheet; ComponentLink2URL: http://www.ti.com/lit/ds/symlink/cd54hct86.pdf
footprint J0014A (DIP, 14-Leads, Body 19.95x7.2mm, Pitch 2.54mm)
part A pins: 1 1A (in), 2 1B (in), 3 1Y (out)
part B pins: 4 2A (in), 5 2B (in), 6 2Y (out)
part C pins: 8 3Y (out), 9 3A (in), 10 3B (in)
part D pins: 11 4Y (out), 12 4A (in), 13 4B (in)
part E pins: 7 GND (power), 14 VCC (power)

## CD54HCT132F
designator U?
CMOS 8-Input NAND/AND Gate, J0014A, TUBE; Generic Part Number: CD54HCT132; Manufacturer: Texas Instruments; PartNumber: CD54HCT132F; VCC(Min)(V): 4.5; VCC(Max)(V): 5.5; Input Type: TTL; Rating: Military; Technology Family: HCT; Schmitt Trigger: No; DatasheetVersion: SCHS145E; PackageReference: J0014A; Output Type: CMOS; Operating Temperature Range(C): -55 to 125; ComponentLink1Description: Manufacturer URL; ComponentLink1URL: http://www.ti.com/; ComponentLink2Description: Datasheet; ComponentLink2URL: http://www.ti.com/lit/ds/symlink/cd54hct132.pdf; ComponentLink3Description: Package Specification; ComponentLink3URL: http://www.ti.com/lit/ml/mcer002d/mcer002d.pdf
footprint J0014A (DIP, 14-Leads, Body 19.95x7.2mm, Pitch 2.54mm)
part A pins: 1 1A (in) "Gate 1 input", 2 1B (in) "Gate 1 input", 3 1Y (out) "Gate 1 output"
part B pins: 4 2A (in) "Gate 2 input", 5 2B (in) "Gate 2 input", 6 2Y (out) "Gate 2 output"
part C pins: 8 3Y (out) "Gate 3 output", 9 3A (in) "Gate 3 input", 10 3B (in) "Gate 3 input"
part D pins: 11 4Y (out) "Gate 4 output", 12 4A (in) "Gate 4 input", 13 4B (in) "Gate 4 input"
part E pins: 7 GND (power) "Ground Pin", 14 VCC (power) "Power Pin"

## CD54HCT132F3A
designator U?
CMOS 8-Input NAND/AND Gate, J0014A, TUBE; Generic Part Number: CD54HCT132; Manufacturer: Texas Instruments; PartNumber: CD54HCT132F3A; VCC(Min)(V): 4.5; VCC(Max)(V): 5.5; Input Type: TTL; Rating: Military; Technology Family: HCT; Schmitt Trigger: No; DatasheetVersion: SCHS145E; PackageReference: J0014A; Output Type: CMOS; Operating Temperature Range(C): -55 to 125; ComponentLink1Description: Manufacturer URL; ComponentLink1URL: http://www.ti.com/; ComponentLink2Description: Datasheet; ComponentLink2URL: http://www.ti.com/lit/ds/symlink/cd54hct132.pdf; ComponentLink3Description: Package Specification; ComponentLink3URL: http://www.ti.com/lit/ml/mcer002d/mcer002d.pdf
footprint J0014A (DIP, 14-Leads, Body 19.95x7.2mm, Pitch 2.54mm)
part A pins: 1 1A (in) "Gate 1 input", 2 1B (in) "Gate 1 input", 3 1Y (out) "Gate 1 output"
part B pins: 4 2A (in) "Gate 2 input", 5 2B (in) "Gate 2 input", 6 2Y (out) "Gate 2 output"
part C pins: 8 3Y (out) "Gate 3 output", 9 3A (in) "Gate 3 input", 10 3B (in) "Gate 3 input"
part D pins: 11 4Y (out) "Gate 4 output", 12 4A (in) "Gate 4 input", 13 4B (in) "Gate 4 input"
part E pins: 7 GND (power) "Ground Pin", 14 VCC (power) "Power Pin"

## CD54HCT4075F3A
designator U?
High Speed CMOS Logic Triple 3-Input OR Gates, J0014A, TUBE; Generic Part Number: CD54HCT4075; Manufacturer: Texas Instruments; PartNumber: CD54HCT4075F3A; VCC(Min)(V): 4.5; VCC(Max)(V): 5.5; Input Type: TTL; Bits(#): 3; Rating: Military; tpd @ Nom Voltage(Max)(ns): 36; DatasheetVersion: SCHS210G; PackageReference: J0014A; Output Type: CMOS; Operating Temperature Range(C): -55 to 125; ComponentLink1Description: Manufacturer URL; ComponentLink1URL: http://www.ti.com/; ComponentLink2Description: Datasheet; ComponentLink2URL: http://www.ti.com/lit/ds/symlink/cd54hct4075.pdf; ComponentLink3Description: Package Specification; ComponentLink3URL: http://www.ti.com/lit/ml/mcer002d/mcer002d.pdf
footprint J0014A (DIP, 14-Leads, Body 19.95x7.2mm, Pitch 2.54mm)
part A pins: 3 1A (in), 4 1B (in), 5 1C (in), 6 1Y (out)
part B pins: 1 2A (in), 2 2B (in), 8 2C (in), 9 2Y (out)
part C pins: 10 3Y (out), 11 3A (in), 12 3B (in), 13 3C (in)
part D pins: 7 GND (power), 14 VCC (power)

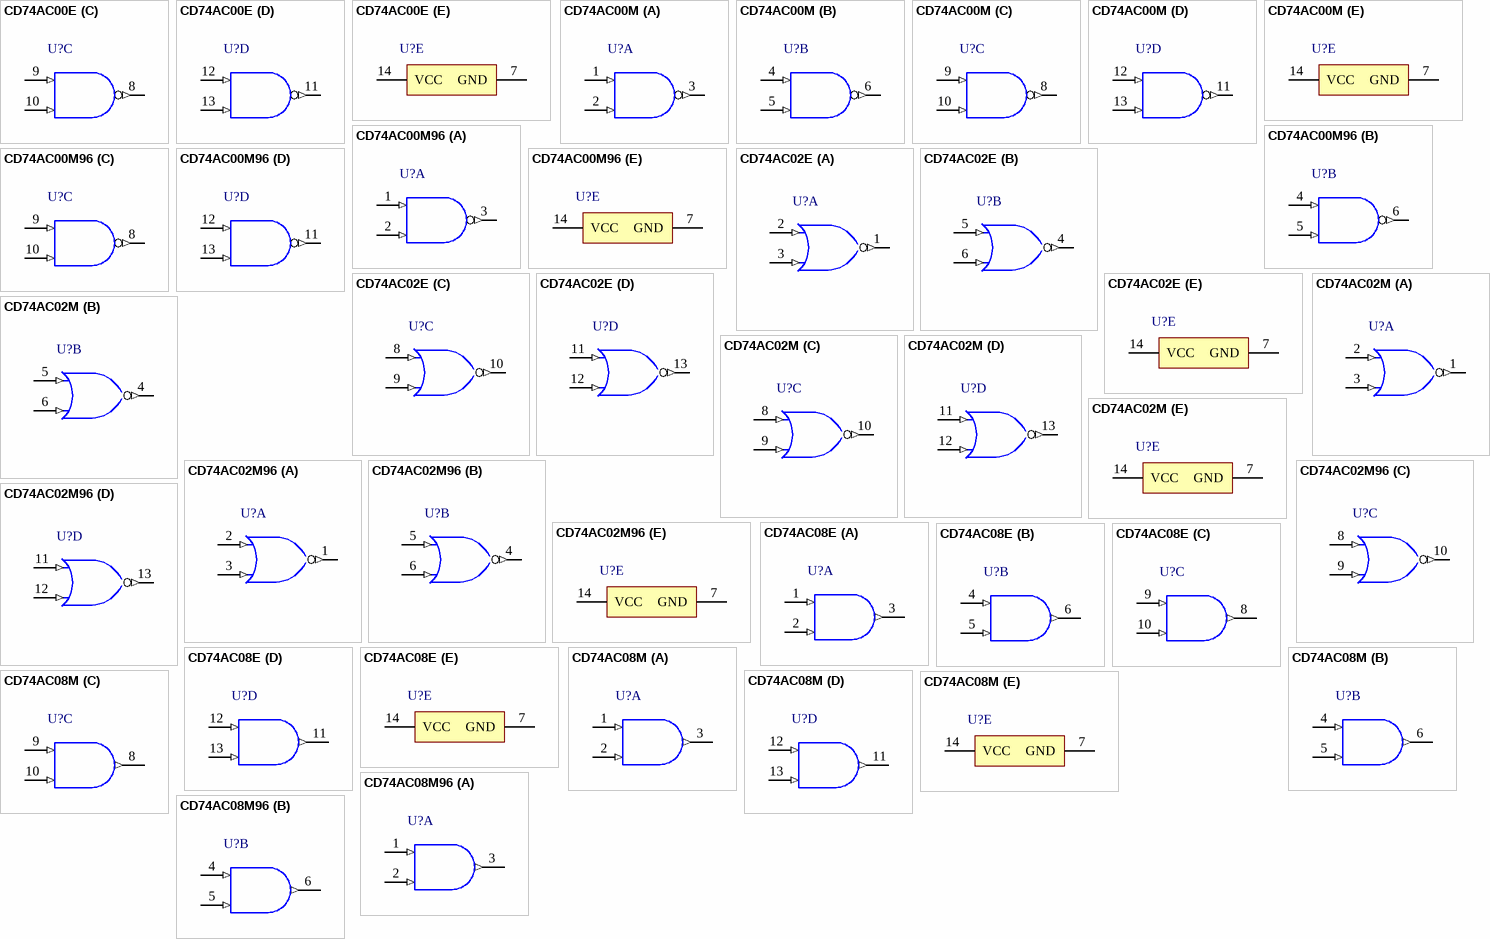
[diagram p13: symbols CD74AC00E to CD74AC08M96]

## CD74AC00E
designator U?
Quad 2-Input NAND Gates, N0014A, TUBE; Generic Part Number: CD74AC00; Manufacturer: Texas Instruments; PartNumber: CD74AC00E; VCC(Min)(V): 1.5; VCC(Max)(V): 5.5; Output Type: CMOS; ICC @ Nom Voltage(Max)(mA): 0.08; Bits(#): 4; F @ Nom Voltage(Max)(Mhz): 100; Rating: Catalog; Technology Family: AC; Voltage(Nom)(V): 1.5,3.3,5; Schmitt Trigger: No; Output Drive (IOL/IOH)(Max)(mA): 24/-24; tpd @ Nom Voltage(Max)(ns): 83,9.3,6.6; DatasheetVersion: SCHS303C; PackageReference: N0014A; Supplier 1: Mouser; Supplier Part Number 1: 595-CD74AC00E; Supplier 2: Digi-Key; Supplier Part Number 2: 296-4214-5-ND; Input Type: CMOS; Operating Temperature Range(C): -55 to 125; Code_JEDEC: MS-001; ComponentLink1Description: Manufacturer URL; ComponentLink1URL: http://www.ti.com/; ComponentLink2Description: Datasheet; ComponentLink2URL: http://www.ti.com/lit/ds/symlink/cd74ac00.pdf; ComponentLink3Description: Package Specification; ComponentLink3URL: http://www.ti.com/lit/ml/mpdi002c/mpdi002c.pdf
footprint N0014A (DIP, 14-Leads, Body 19.7x6.6mm, Pitch 2.54mm)
part A pins: 1 1A (in) "Gate 1 input", 2 1B (in) "Gate 1 input", 3 1Y (out) "Gate 1 output"
part B pins: 4 2A (in) "Gate 2 input", 5 2B (in) "Gate 2 input", 6 2Y (out) "Gate 2 output"
part C pins: 8 3Y (out) "Gate 3 output", 9 3A (in) "Gate 3 input", 10 3B (in) "Gate 3 input"
part D pins: 11 4Y (out) "Gate 4 output", 12 4A (in) "Gate 4 input", 13 4B (in) "Gate 4 input"
part E pins: 7 GND (power) "Ground Pin", 14 VCC (power) "Power Pin"

## CD74AC00M
designator U?
Quad 2-Input NAND Gates, D0014A, TUBE; Generic Part Number: CD74AC00; Manufacturer: Texas Instruments; PartNumber: CD74AC00M; VCC(Min)(V): 1.5; VCC(Max)(V): 5.5; Output Type: CMOS; ICC @ Nom Voltage(Max)(mA): 0.08; Bits(#): 4; F @ Nom Voltage(Max)(Mhz): 100; Rating: Catalog; Technology Family: AC; Voltage(Nom)(V): 1.5,3.3,5; Schmitt Trigger: No; Output Drive (IOL/IOH)(Max)(mA): 24/-24; tpd @ Nom Voltage(Max)(ns): 83,9.3,6.6; DatasheetVersion: SCHS303C; PackageReference: D0014A; Supplier 1: Mouser; Supplier Part Number 1: 595-CD74AC00M; Supplier 2: Digi-Key; Supplier Part Number 2: 296-4215-5-ND; Input Type: CMOS; Operating Temperature Range(C): -55 to 125; Code_JEDEC: MS-012; ComponentLink1Description: Manufacturer URL; ComponentLink1URL: http://www.ti.com/; ComponentLink2Description: Datasheet; ComponentLink2URL: http://www.ti.com/lit/ds/symlink/cd74ac00.pdf; ComponentLink3Description: Package Specification; ComponentLink3URL: http://www.ti.com/lit/ml/mpds177g/mpds177g.pdf
footprint D0014A_N (SOIC, 14-Leads, Body 8.75x4mm, Pitch 1.27mm, IPC Medium Density)
footprint D0014A_M (SOIC, 14-Leads, Body 8.75x4mm, Pitch 1.27mm, IPC Low Density)
footprint D0014A_L (SOIC, 14-Leads, Body 8.75x4mm, Pitch 1.27mm, IPC High Density)
part A pins: 1 1A (in) "Gate 1 input", 2 1B (in) "Gate 1 input", 3 1Y (out) "Gate 1 output"
part B pins: 4 2A (in) "Gate 2 input", 5 2B (in) "Gate 2 input", 6 2Y (out) "Gate 2 output"
part C pins: 8 3Y (out) "Gate 3 output", 9 3A (in) "Gate 3 input", 10 3B (in) "Gate 3 input"
part D pins: 11 4Y (out) "Gate 4 output", 12 4A (in) "Gate 4 input", 13 4B (in) "Gate 4 input"
part E pins: 7 GND (power) "Ground Pin", 14 VCC (power) "Power Pin"

## CD74AC00M96
designator U?
Quad 2-Input NAND Gates, D0014A, LARGE T&R; Generic Part Number: CD74AC00; Manufacturer: Texas Instruments; PartNumber: CD74AC00M96; VCC(Min)(V): 1.5; VCC(Max)(V): 5.5; Output Type: CMOS; ICC @ Nom Voltage(Max)(mA): 0.08; Bits(#): 4; F @ Nom Voltage(Max)(Mhz): 100; Rating: Catalog; Technology Family: AC; Voltage(Nom)(V): 1.5,3.3,5; Schmitt Trigger: No; Output Drive (IOL/IOH)(Max)(mA): 24/-24; tpd @ Nom Voltage(Max)(ns): 83,9.3,6.6; DatasheetVersion: SCHS303C; PackageReference: D0014A; Supplier 1: Mouser; Supplier Part Number 1: 595-CD74AC00M96; Supplier 2: Digi-Key; Supplier Part Number 2: 296-4215-2-ND; Supplier 3: Digi-Key; Supplier Part Number 3: 296-4215-1-ND; Supplier 4: Digi-Key; Supplier Part Number 4: 296-4215-6-ND; Input Type: CMOS; Operating Temperature Range(C): -55 to 125; Code_JEDEC: MS-012; ComponentLink1Description: Manufacturer URL; ComponentLink1URL: http://www.ti.com/; ComponentLink2Description: Datasheet; ComponentLink2URL: http://www.ti.com/lit/ds/symlink/cd74ac00.pdf; ComponentLink3Description: Package Specification; ComponentLink3URL: http://www.ti.com/lit/ml/mpds177g/mpds177g.pdf
footprint D0014A_N (SOIC, 14-Leads, Body 8.75x4mm, Pitch 1.27mm, IPC Medium Density)
footprint D0014A_M (SOIC, 14-Leads, Body 8.75x4mm, Pitch 1.27mm, IPC Low Density)
footprint D0014A_L (SOIC, 14-Leads, Body 8.75x4mm, Pitch 1.27mm, IPC High Density)
part A pins: 1 1A (in) "Gate 1 input", 2 1B (in) "Gate 1 input", 3 1Y (out) "Gate 1 output"
part B pins: 4 2A (in) "Gate 2 input", 5 2B (in) "Gate 2 input", 6 2Y (out) "Gate 2 output"
part C pins: 8 3Y (out) "Gate 3 output", 9 3A (in) "Gate 3 input", 10 3B (in) "Gate 3 input"
part D pins: 11 4Y (out) "Gate 4 output", 12 4A (in) "Gate 4 input", 13 4B (in) "Gate 4 input"
part E pins: 7 GND (power) "Ground Pin", 14 VCC (power) "Power Pin"

## CD74AC02E
designator U?
Quad 2-Input NOR Gates, N0014A, TUBE; Generic Part Number: CD74AC02; Manufacturer: Texas Instruments; PartNumber: CD74AC02E; VCC(Min)(V): 1.5; VCC(Max)(V): 5.5; Output Type: CMOS; Bits(#): 4; Rating: Catalog; tpd @ Nom Voltage(Max)(ns): 131,14.6,10.4; ICC @ Nom Voltage(Max)(mA): 0.08; F @ Nom Voltage(Max)(Mhz): 100; Voltage(Nom)(V): 1.5,3.3,5; Output Drive (IOL/IOH)(Max)(mA): 24/-24; DatasheetVersion: SCHS304C; PackageReference: N0014A; Input Type: CMOS; Operating Temperature Range(C): -55 to 125; Code_JEDEC: MS-001; ComponentLink1Description: Manufacturer URL; ComponentLink1URL: http://www.ti.com/; ComponentLink2Description: Datasheet; ComponentLink2URL: http://www.ti.com/lit/ds/symlink/cd74ac02.pdf; ComponentLink3Description: Package Specification; ComponentLink3URL: http://www.ti.com/lit/ml/mpdi002c/mpdi002c.pdf
footprint N0014A (DIP, 14-Leads, Body 19.7x6.6mm, Pitch 2.54mm)
part A pins: 1 1Y (out) "1Y output", 2 1A (in) "1A input", 3 1B (in) "1B input"
part B pins: 4 2Y (out) "2Y output", 5 2A (in) "2A input", 6 2B (in) "2B input"
part C pins: 8 3A (in) "3A input", 9 3B (in) "3B input", 10 3Y (out) "3Y output"
part D pins: 11 4A (in) "4A input", 12 4B (in) "4B input", 13 4Y (out) "4Y output"
part E pins: 7 GND (power), 14 VCC (power)

## CD74AC02M
designator U?
Quad 2-Input NOR Gates, D0014A, TUBE; Generic Part Number: CD74AC02; Manufacturer: Texas Instruments; PartNumber: CD74AC02M; VCC(Min)(V): 1.5; VCC(Max)(V): 5.5; Output Type: CMOS; Bits(#): 4; Rating: Catalog; tpd @ Nom Voltage(Max)(ns): 131,14.6,10.4; ICC @ Nom Voltage(Max)(mA): 0.08; F @ Nom Voltage(Max)(Mhz): 100; Voltage(Nom)(V): 1.5,3.3,5; Output Drive (IOL/IOH)(Max)(mA): 24/-24; DatasheetVersion: SCHS304C; PackageReference: D0014A; Input Type: CMOS; Operating Temperature Range(C): -55 to 125; Code_JEDEC: MS-012; ComponentLink1Description: Manufacturer URL; ComponentLink1URL: http://www.ti.com/; ComponentLink2Description: Datasheet; ComponentLink2URL: http://www.ti.com/lit/ds/symlink/cd74ac02.pdf; ComponentLink3Description: Package Specification; ComponentLink3URL: http://www.ti.com/lit/ml/mpds177g/mpds177g.pdf
footprint D0014A_N (SOIC, 14-Leads, Body 8.75x4mm, Pitch 1.27mm, IPC Medium Density)
footprint D0014A_M (SOIC, 14-Leads, Body 8.75x4mm, Pitch 1.27mm, IPC Low Density)
footprint D0014A_L (SOIC, 14-Leads, Body 8.75x4mm, Pitch 1.27mm, IPC High Density)
part A pins: 1 1Y (out) "1Y output", 2 1A (in) "1A input", 3 1B (in) "1B input"
part B pins: 4 2Y (out) "2Y output", 5 2A (in) "2A input", 6 2B (in) "2B input"
part C pins: 8 3A (in) "3A input", 9 3B (in) "3B input", 10 3Y (out) "3Y output"
part D pins: 11 4A (in) "4A input", 12 4B (in) "4B input", 13 4Y (out) "4Y output"
part E pins: 7 GND (power), 14 VCC (power)

## CD74AC02M96
designator U?
Quad 2-Input NOR Gates, D0014A, LARGE T&R; Generic Part Number: CD74AC02; Manufacturer: Texas Instruments; PartNumber: CD74AC02M96; VCC(Min)(V): 1.5; VCC(Max)(V): 5.5; Output Type: CMOS; Bits(#): 4; Rating: Catalog; tpd @ Nom Voltage(Max)(ns): 131,14.6,10.4; ICC @ Nom Voltage(Max)(mA): 0.08; F @ Nom Voltage(Max)(Mhz): 100; Voltage(Nom)(V): 1.5,3.3,5; Output Drive (IOL/IOH)(Max)(mA): 24/-24; DatasheetVersion: SCHS304C; PackageReference: D0014A; Input Type: CMOS; Operating Temperature Range(C): -55 to 125; Code_JEDEC: MS-012; ComponentLink1Description: Manufacturer URL; ComponentLink1URL: http://www.ti.com/; ComponentLink2Description: Datasheet; ComponentLink2URL: http://www.ti.com/lit/ds/symlink/cd74ac02.pdf; ComponentLink3Description: Package Specification; ComponentLink3URL: http://www.ti.com/lit/ml/mpds177g/mpds177g.pdf
footprint D0014A_N (SOIC, 14-Leads, Body 8.75x4mm, Pitch 1.27mm, IPC Medium Density)
footprint D0014A_M (SOIC, 14-Leads, Body 8.75x4mm, Pitch 1.27mm, IPC Low Density)
footprint D0014A_L (SOIC, 14-Leads, Body 8.75x4mm, Pitch 1.27mm, IPC High Density)
part A pins: 1 1Y (out) "1Y output", 2 1A (in) "1A input", 3 1B (in) "1B input"
part B pins: 4 2Y (out) "2Y output", 5 2A (in) "2A input", 6 2B (in) "2B input"
part C pins: 8 3A (in) "3A input", 9 3B (in) "3B input", 10 3Y (out) "3Y output"
part D pins: 11 4A (in) "4A input", 12 4B (in) "4B input", 13 4Y (out) "4Y output"
part E pins: 7 GND (power), 14 VCC (power)

## CD74AC08E
designator U?
Quad 2-Input AND Gates, N0014A, TUBE; Generic Part Number: CD74AC08; Manufacturer: Texas Instruments; PartNumber: CD74AC08E; VCC(Min)(V): 1.5; VCC(Max)(V): 5.5; Output Type: CMOS; ICC @ Nom Voltage(Max)(mA): 0.08; Bits(#): 4; F @ Nom Voltage(Max)(Mhz): 100; Rating: Catalog; Technology Family: AC; Voltage(Nom)(V): 1.5,3.3,5; Schmitt Trigger: No; Output Drive (IOL/IOH)(Max)(mA): -24/24; tpd @ Nom Voltage(Max)(ns): 109,12.2,8.7; DatasheetVersion: SCHS307C; PackageReference: N0014A; Supplier 1: Mouser; Supplier Part Number 1: 595-CD74AC08E; Supplier 2: Digi-Key; Supplier Part Number 2: 296-32942-5-ND; Input Type: CMOS; Operating Temperature Range(C): -55 to 125; ComponentLink1Description: Manufacturer URL; ComponentLink1URL: http://www.ti.com/; ComponentLink2Description: Datasheet; ComponentLink2URL: http://www.ti.com/lit/ds/symlink/cd74ac08.pdf
footprint N0014A (DIP, 14-Leads, Body 19.7x6.6mm, Pitch 2.54mm)
part A pins: 1 1A (in), 2 1B (in), 3 1Y (out)
part B pins: 4 2A (in), 5 2B (in), 6 2Y (out)
part C pins: 8 3Y (out), 9 3A (in), 10 3B (in)
part D pins: 11 4Y (out), 12 4A (in), 13 4B (in)
part E pins: 7 GND (power), 14 VCC (power)

## CD74AC08M
designator U?
Quad 2-Input AND Gates, D0014A, TUBE; Generic Part Number: CD74AC08; Manufacturer: Texas Instruments; PartNumber: CD74AC08M; VCC(Min)(V): 1.5; VCC(Max)(V): 5.5; Output Type: CMOS; ICC @ Nom Voltage(Max)(mA): 0.08; Bits(#): 4; F @ Nom Voltage(Max)(Mhz): 100; Rating: Catalog; Technology Family: AC; Voltage(Nom)(V): 1.5,3.3,5; Schmitt Trigger: No; Output Drive (IOL/IOH)(Max)(mA): -24/24; tpd @ Nom Voltage(Max)(ns): 109,12.2,8.7; DatasheetVersion: SCHS307C; PackageReference: D0014A; Supplier 1: Mouser; Supplier Part Number 1: 595-CD74AC08M; Supplier 2: Digi-Key; Supplier Part Number 2: 296-1377-5-ND; Input Type: CMOS; Operating Temperature Range(C): -55 to 125; ComponentLink1Description: Manufacturer URL; ComponentLink1URL: http://www.ti.com/; ComponentLink2Description: Datasheet; ComponentLink2URL: http://www.ti.com/lit/ds/symlink/cd74ac08.pdf
footprint D0014A_N (SOIC, 14-Leads, Body 8.75x4mm, Pitch 1.27mm, IPC Medium Density)
footprint D0014A_M (SOIC, 14-Leads, Body 8.75x4mm, Pitch 1.27mm, IPC Low Density)
footprint D0014A_L (SOIC, 14-Leads, Body 8.75x4mm, Pitch 1.27mm, IPC High Density)
part A pins: 1 1A (in), 2 1B (in), 3 1Y (out)
part B pins: 4 2A (in), 5 2B (in), 6 2Y (out)
part C pins: 8 3Y (out), 9 3A (in), 10 3B (in)
part D pins: 11 4Y (out), 12 4A (in), 13 4B (in)
part E pins: 7 GND (power), 14 VCC (power)

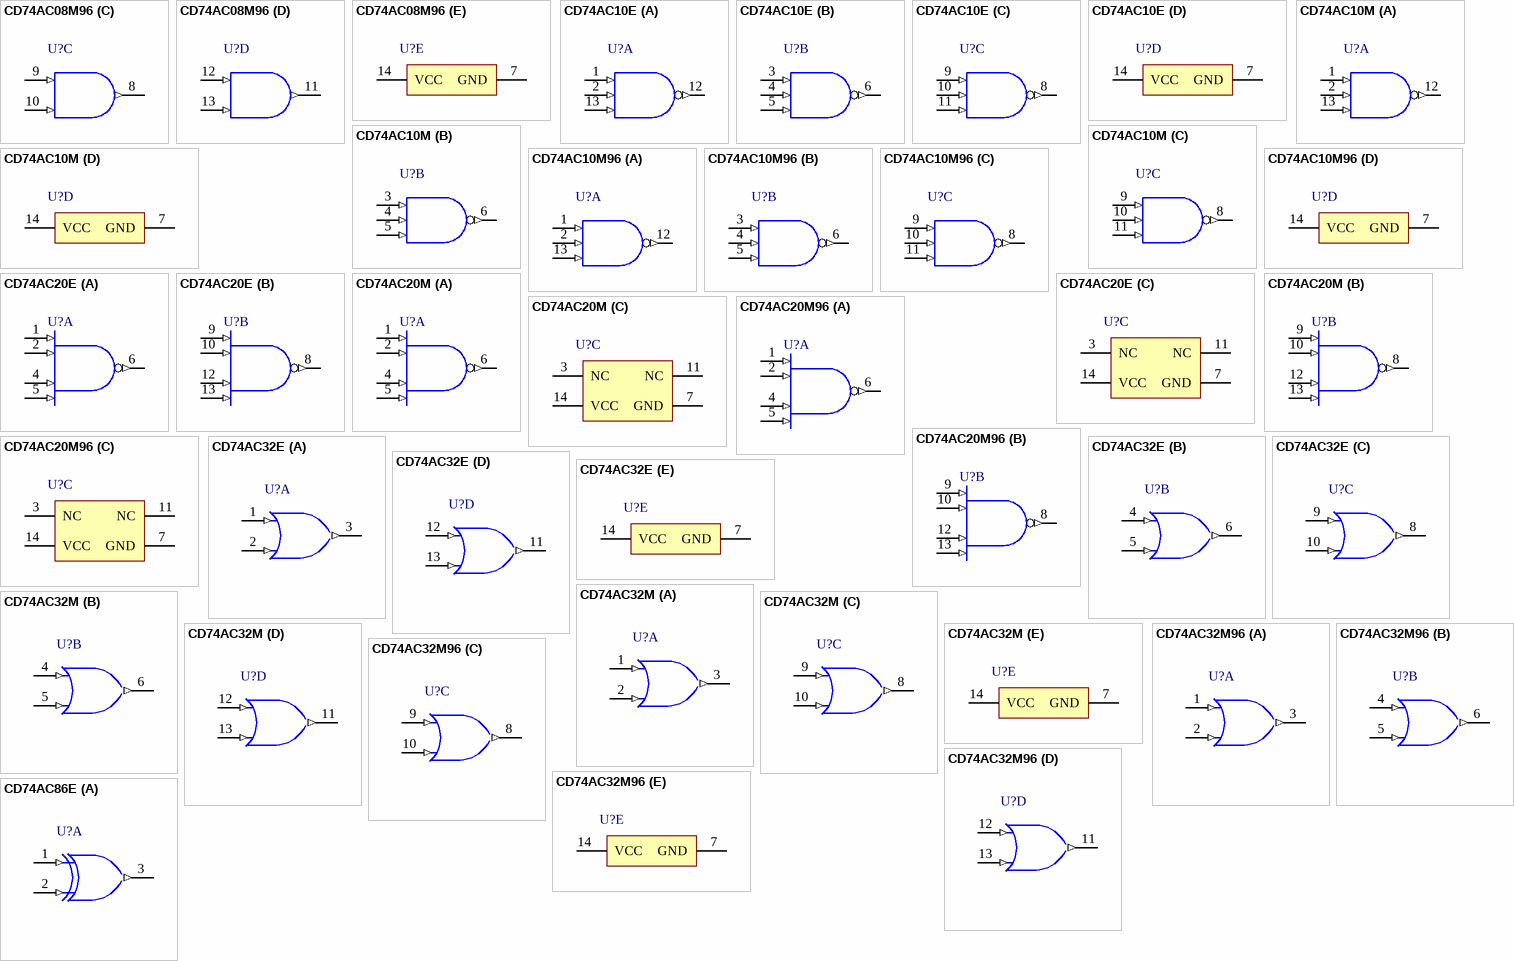
[diagram p14: symbols CD74AC08M96 to CD74AC86E]

## CD74AC08M96
designator U?
Quad 2-Input AND Gates, D0014A, LARGE T&R; Generic Part Number: CD74AC08; Manufacturer: Texas Instruments; PartNumber: CD74AC08M96; VCC(Min)(V): 1.5; VCC(Max)(V): 5.5; Output Type: CMOS; ICC @ Nom Voltage(Max)(mA): 0.08; Bits(#): 4; F @ Nom Voltage(Max)(Mhz): 100; Rating: Catalog; Technology Family: AC; Voltage(Nom)(V): 1.5,3.3,5; Schmitt Trigger: No; Output Drive (IOL/IOH)(Max)(mA): -24/24; tpd @ Nom Voltage(Max)(ns): 109,12.2,8.7; DatasheetVersion: SCHS307C; PackageReference: D0014A; Supplier 1: Mouser; Supplier Part Number 1: 595-CD74AC08M96; Supplier 2: Digi-Key; Supplier Part Number 2: 296-14477-2-ND; Supplier 3: Digi-Key; Supplier Part Number 3: 296-14477-1-ND; Supplier 4: Digi-Key; Supplier Part Number 4: 296-14477-6-ND; Input Type: CMOS; Operating Temperature Range(C): -55 to 125; ComponentLink1Description: Manufacturer URL; ComponentLink1URL: http://www.ti.com/; ComponentLink2Description: Datasheet; ComponentLink2URL: http://www.ti.com/lit/ds/symlink/cd74ac08.pdf
footprint D0014A_N (SOIC, 14-Leads, Body 8.75x4mm, Pitch 1.27mm, IPC Medium Density)
footprint D0014A_M (SOIC, 14-Leads, Body 8.75x4mm, Pitch 1.27mm, IPC Low Density)
footprint D0014A_L (SOIC, 14-Leads, Body 8.75x4mm, Pitch 1.27mm, IPC High Density)
part A pins: 1 1A (in), 2 1B (in), 3 1Y (out)
part B pins: 4 2A (in), 5 2B (in), 6 2Y (out)
part C pins: 8 3Y (out), 9 3A (in), 10 3B (in)
part D pins: 11 4Y (out), 12 4A (in), 13 4B (in)
part E pins: 7 GND (power), 14 VCC (power)

## CD74AC10E
designator U?
Triple 3-Input NAND Gates, N0014A, TUBE; Generic Part Number: CD74AC10; Manufacturer: Texas Instruments; PartNumber: CD74AC10E; VCC(Min)(V): 1.5; VCC(Max)(V): 5.5; Output Type: CMOS; ICC @ Nom Voltage(Max)(mA): 0.04; Bits(#): 3; F @ Nom Voltage(Max)(Mhz): 100; Rating: Catalog; Technology Family: AC; Voltage(Nom)(V): 1.5,3.3,5; Schmitt Trigger: No; Output Drive (IOL/IOH)(Max)(mA): 24/-24; tpd @ Nom Voltage(Max)(ns): 139,15.5,11.1; DatasheetVersion: SCHS317; PackageReference: N0014A; Supplier 1: Mouser; Supplier Part Number 1: 595-CD74AC10E; Supplier 2: Digi-Key; Supplier Part Number 2: 296-32944-5-ND; Input Type: CMOS; Operating Temperature Range(C): -55 to 125; Code_JEDEC: MS-001; ComponentLink1Description: Manufacturer URL; ComponentLink1URL: http://www.ti.com/; ComponentLink2Description: Datasheet; ComponentLink2URL: http://www.ti.com/lit/ds/symlink/cd74ac10.pdf; ComponentLink3Description: Package Specification; ComponentLink3URL: http://www.ti.com/lit/ml/mpdi002c/mpdi002c.pdf
footprint N0014A (DIP, 14-Leads, Body 19.7x6.6mm, Pitch 2.54mm)
part A pins: 1 1A (in), 2 1B (in), 12 1Y (out), 13 1C (in)
part B pins: 3 2A (in), 4 2B (in), 5 2C (in), 6 2Y (out)
part C pins: 8 3Y (out), 9 3A (in), 10 3B (in), 11 3C (in)
part D pins: 7 GND (power), 14 VCC (power)